# Altium footprint library Abracon.PcbLib: 1 footprints
Each footprint in its own frame and in the unit in brackets; x right, y up, seen from the top. Pads: shape width x height; smd on the part's side, far side on the other; paste and mask are expansions set on the pad; w line width, h text height; cw(c..) or ccw(c..) is an arc to the next point about the centre after c.
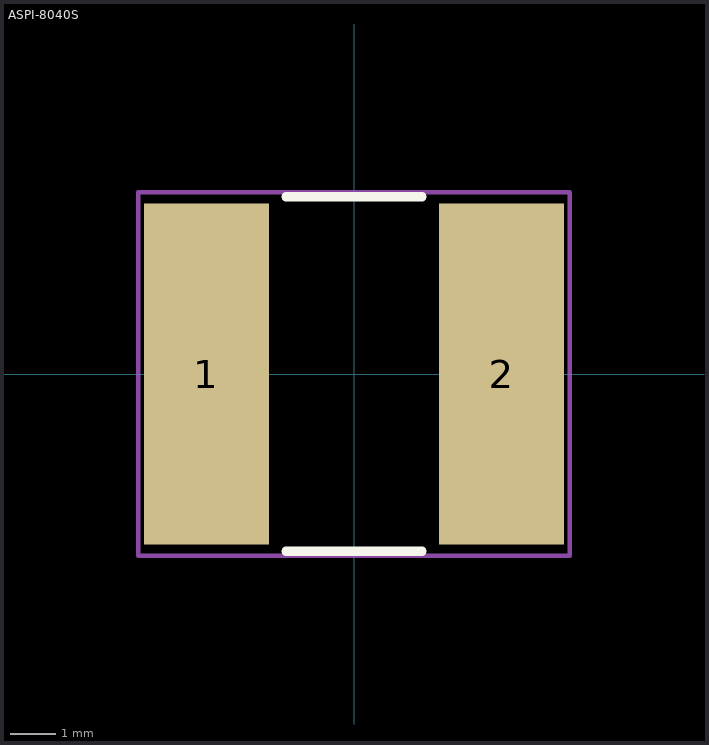
[diagram p0: the footprint, top view; thin cyan lines are the x and y axes]

## ASPI-8040S [mm]
height 4
pads (2):
  rect 2.75x7.5 smd: 1(-3.25,0) 2(3.25,0)
Top Overlay:
  lines w0.2: -1.5,-3.9 1.5,-3.9 ; -1.5,3.9 1.5,3.9
Mechanical 15:
  lines w0.1: -4.75,-4 4.75,-4 4.75,4 -4.75,4 -4.75,-4
3D body: height 4, standoff 0, extent -4,-4 4,4